# Altium footprint library PcbLib1.PcbLib: 218 footprints (part 12 of 14)
Each footprint in its own frame and in the unit in brackets; x right, y up, seen from the top. Pads: shape width x height; smd on the part's side, far side on the other; paste and mask are expansions set on the pad; w line width, h text height; cw(c..) or ccw(c..) is an arc to the next point about the centre after c.
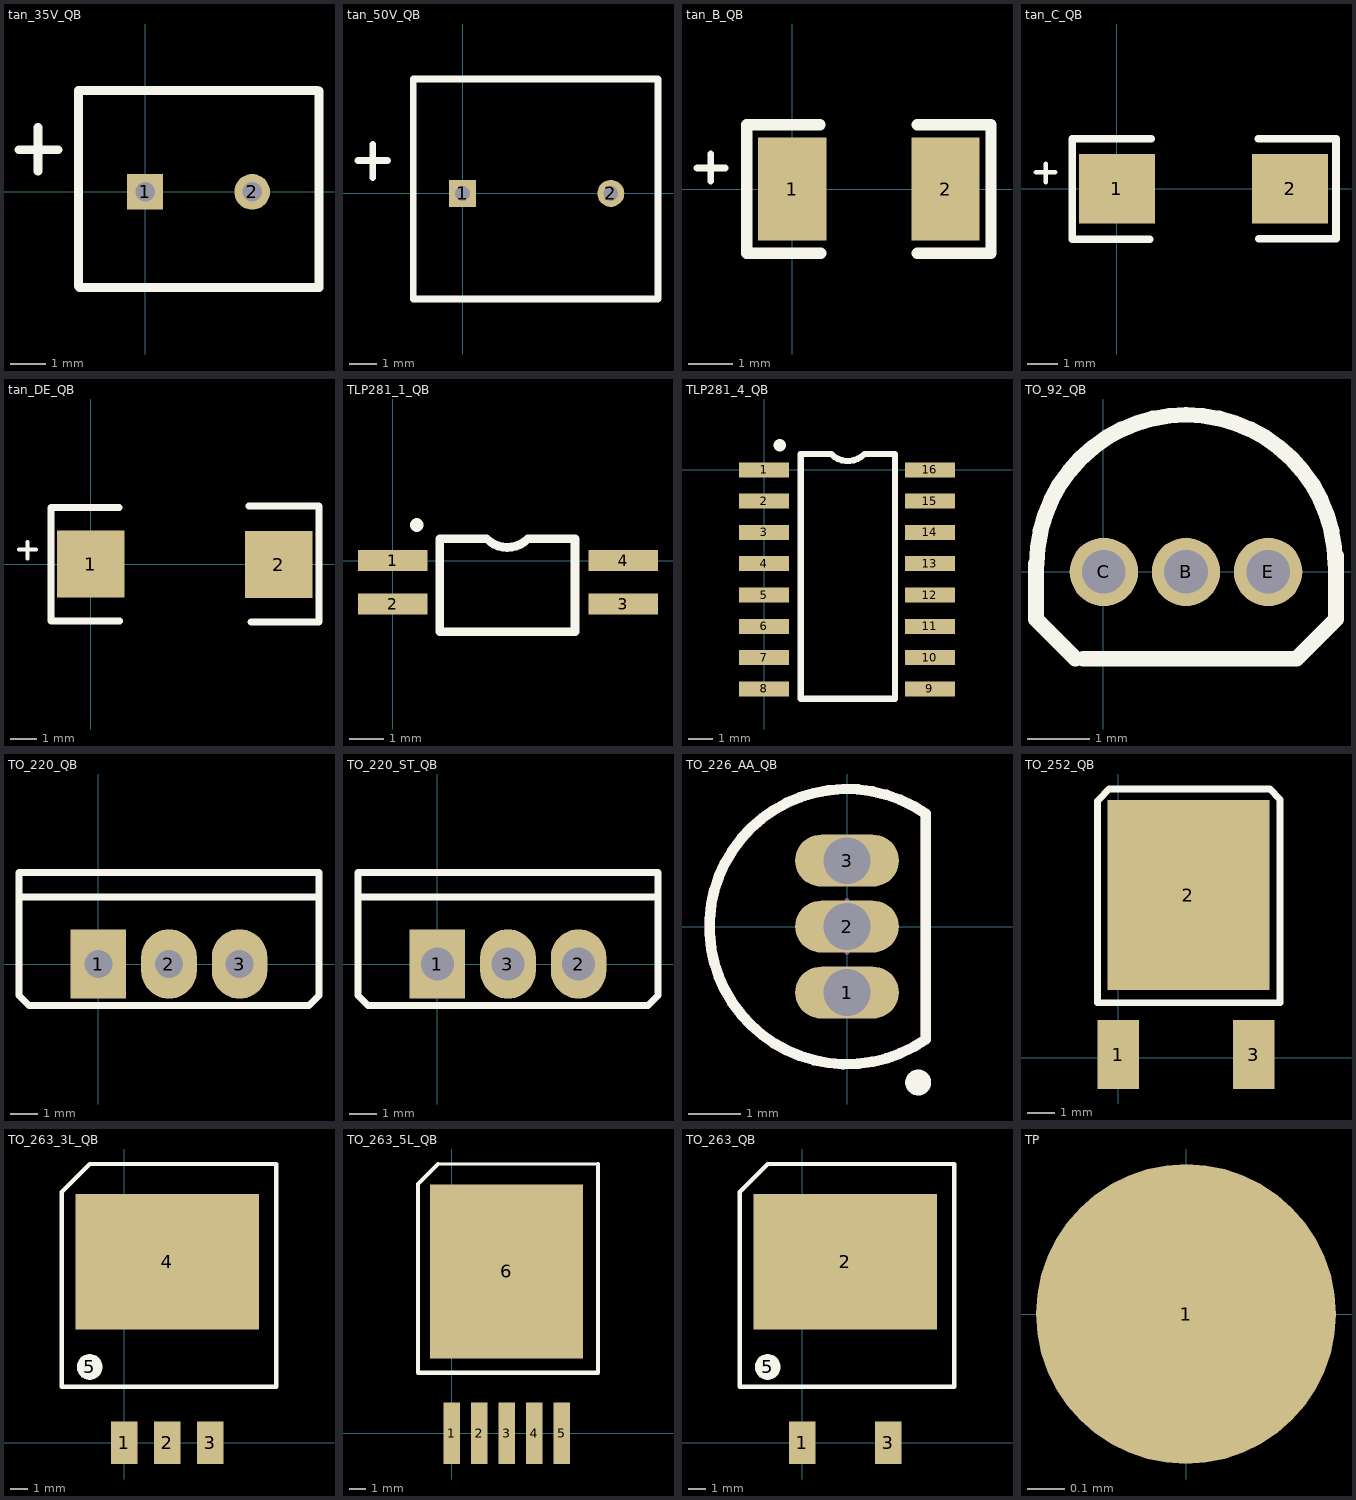
[diagram p11: the footprints below, top view; thin cyan lines are the x and y axes]

## tan_35V_QB [mm]
height 0.5
pads (2):
  rect 1x1 hole 0.55: 1(0,0)
  round 1 hole 0.55: 2(3,0)
Top Overlay:
  lines w0.25: -3.53,1.18 -2.44,1.18 ; -3,0.59 -3,1.81
  lines w0.254: -1.87,-2.64 -1.87,2.84 4.82,2.84 ; -1.83,-2.68 4.83,-2.68 ; 4.87,-2.68 4.87,2.83
3D body: height 7.98, standoff 2, extent -1.51,-1.95 4.478,2.05
3D body: height 3, standoff -2.6, extent -0.239,-0.25 0.259,0.249
3D body: height 3, standoff -2.6, extent 2.751,-0.24 3.249,0.259

## tan_50V_QB [mm]
height 0.5
pads (2):
  rect 1x1 hole 0.55: 1(0,0)
  round 1 hole 0.55: 2(5.5,0)
Top Overlay:
  lines w0.254: -3.88,1.22 -2.79,1.22 ; -3.33,0.59 -3.33,1.81 ; -1.83,-3.91 7.25,-3.91 7.25,4.24 -1.83,4.24 -1.83,-3.91
3D body: height 3, standoff -2.6, extent 5.251,-0.24 5.749,0.259
3D body: height 3, standoff -2.6, extent -0.239,-0.25 0.259,0.249
3D body: height 9.22, standoff 0.75, extent -1.522,-2.9 6.962,3.1

## tan_B_QB [mil]
height 74.8
pads (2):
  rect 60x90.55 smd: 1(0,0) 2(135,0)
Top Overlay:
  lines w5.91: -83.86,18.5 -59.06,18.5 ; -71.65,7.09 -71.65,31.1
  lines w10: 24.41,56.69 -40,56.69 -40,-56.69 25,-56.69 ; 110,-56.69 175,-56.69 175,56.69 110,56.69
3D body: height 74.8, standoff 0, extent 0.2,-56.1 136.7,55.71

## tan_C_QB [mm]
height 2.6
pads (2):
  rect 2.524x2.3 smd: 1(0,0) 2(5.74,0)
Top Overlay:
  lines w0.15: -2.68,0.54 -2.05,0.54 ; -2.36,0.21 -2.36,0.82
  lines w0.254: 1.09,-1.68 -1.48,-1.68 -1.48,1.66 1.13,1.66 ; 4.68,1.65 7.26,1.65 7.26,-1.66 4.7,-1.66
3D body: height 2.6, standoff 0, extent -0.14,-1.645 5.93,1.63

## tan_DE_QB [mm]
height 3.3
pads (2):
  rect 2.524x2.5 smd: 1(0,0) 2(7.04,-0.02)
Top Overlay:
  lines w0.15: -2.68,0.54 -2.05,0.54 ; -2.36,0.21 -2.36,0.82
  lines w0.254: 1.07,2.11 -1.48,2.11 -1.48,-2.13 1.09,-2.13 ; 5.91,2.17 8.54,2.17 8.54,-2.17 6,-2.17
3D body: height 3.3, standoff 0, extent -0.14,-2.14 7.04,2.14

## TLP281_1_QB [mil]
height 82.68
pads (4):
  rect 80x24 smd: 1(0,0) 2(0,-50) 3(265,-50) 4(265,0)
Top Overlay:
  lines w10: 53.98,-81.89 53.98,25 108.03,25 ccw(c131.74,48.7) 155.43,25 209.49,25 209.49,-81.89 53.98,-81.89
  lines w15.75: 27.6,40.94 27.6,40.94
3D body: height 82.68, standoff 3.94, extent 44.13,-84.65 221.69,25.2
3D body: height 5.91, standoff 0, extent 1.58,-60.08 30.11,-40.39
3D body: height 41.34, standoff 36.61, extent 23.72,-60.08 44.35,-40.39
3D body: height 37.4, standoff 0, extent 23.72,-60.07 30.12,-40.39
3D body: height 5.91, standoff 0, extent 1.32,-9.13 29.86,10.56
3D body: height 41.34, standoff 36.61, extent 23.47,-9.13 44.09,10.56
3D body: height 37.4, standoff 0, extent 23.47,-9.13 29.87,10.56
3D body: height 5.91, standoff 0, extent 235.48,-59.52 264.02,-39.84
3D body: height 41.34, standoff 36.61, extent 221.28,-59.53 241.91,-39.84
3D body: height 37.4, standoff 0, extent 235.48,-59.52 241.88,-39.84
3D body: height 5.91, standoff 0, extent 235.08,-9.68 263.62,10.01
3D body: height 41.34, standoff 36.61, extent 220.89,-9.69 241.51,10
3D body: height 37.4, standoff 0, extent 235.08,-9.68 241.48,10

## TLP281_4_QB [mil]
height 82.68
pads (16):
  rect 80x24 smd: 1(0,0) 2(0,-50) 3(0,-100) 4(0,-150) 5(0,-200) 6(0,-250) 7(0,-300) 8(0,-350) 9(265,-350) 10(265,-300) 11(265,-250) 12(265,-200) 13(265,-150) 14(265,-100) 15(265,-50) 16(265,0)
Top Overlay:
  lines w10: 58.66,-365.45 58.66,25 107.32,25 ccw(c133.86,51.54) 160.39,25 209.06,25 209.06,-365.45 58.66,-365.45
  lines w19.68: 25.2,39.37 25.2,39.38
3D body: height 82.68, standoff 3.94, extent 32.48,-370.57 235.04,25.1
3D body: height 5.91, standoff 0, extent 249.25,-359.94 277.79,-340.25
3D body: height 41.34, standoff 36.61, extent 235.02,-359.94 255.64,-340.25
3D body: height 37.4, standoff 0, extent 249.24,-359.93 255.64,-340.25
3D body: height 5.91, standoff 0, extent 249.24,-309.35 277.78,-289.66
3D body: height 41.34, standoff 36.61, extent 235.01,-309.35 255.63,-289.66
3D body: height 37.4, standoff 0, extent 249.24,-309.35 255.63,-289.66
3D body: height 5.91, standoff 0, extent 249.25,-260.73 277.79,-241.05
3D body: height 41.34, standoff 36.61, extent 235.02,-260.73 255.65,-241.05
3D body: height 37.4, standoff 0, extent 249.25,-260.73 255.65,-241.05
3D body: height 5.91, standoff 0, extent 249.24,-208.74 277.78,-189.06
3D body: height 41.34, standoff 36.61, extent 235.01,-208.74 255.63,-189.06
3D body: height 37.4, standoff 0, extent 249.24,-208.74 255.63,-189.06
3D body: height 5.91, standoff 0, extent 249.2,-158.81 277.74,-139.12
3D body: height 41.34, standoff 36.61, extent 234.97,-158.81 255.6,-139.12
3D body: height 37.4, standoff 0, extent 249.2,-158.81 255.6,-139.12
3D body: height 5.91, standoff 0, extent 249.21,-110.59 277.75,-90.9
3D body: height 41.34, standoff 36.61, extent 234.98,-110.59 255.6,-90.9
3D body: height 37.4, standoff 0, extent 249.2,-110.59 255.6,-90.9
3D body: height 5.91, standoff 0, extent 249.49,-59.29 278.03,-39.6
3D body: height 41.34, standoff 36.61, extent 235.26,-59.29 255.89,-39.6
3D body: height 37.4, standoff 0, extent 249.49,-59.29 255.89,-39.6
3D body: height 5.91, standoff 0, extent 249.35,-9.13 277.89,10.56
3D body: height 41.34, standoff 36.61, extent 235.12,-9.13 255.74,10.56
3D body: height 37.4, standoff 0, extent 249.35,-9.13 255.74,10.56
3D body: height 5.91, standoff 0, extent -10.28,-360.23 18.26,-340.55
3D body: height 41.34, standoff 36.61, extent 11.83,-360.24 32.46,-340.55
3D body: height 37.4, standoff 0, extent 11.87,-360.23 18.26,-340.55
3D body: height 5.91, standoff 0, extent -10.36,-310.31 18.18,-290.62
3D body: height 41.34, standoff 36.61, extent 11.75,-310.32 32.38,-290.63
3D body: height 37.4, standoff 0, extent 11.79,-310.31 18.18,-290.63
3D body: height 5.91, standoff 0, extent -10.2,-260.75 18.34,-241.06
3D body: height 41.34, standoff 36.61, extent 11.91,-260.75 32.54,-241.06
3D body: height 37.4, standoff 0, extent 11.94,-260.75 18.34,-241.06
3D body: height 5.91, standoff 0, extent -10.04,-209.92 18.5,-190.23
3D body: height 41.34, standoff 36.61, extent 12.07,-209.92 32.69,-190.23
3D body: height 37.4, standoff 0, extent 12.1,-209.92 18.5,-190.23
3D body: height 5.91, standoff 0, extent -10.2,-159.72 18.34,-140.03
3D body: height 41.34, standoff 36.61, extent 11.91,-159.73 32.54,-140.04
3D body: height 37.4, standoff 0, extent 11.94,-159.72 18.34,-140.04
3D body: height 5.91, standoff 0, extent -9.88,-110.67 18.66,-90.98
3D body: height 41.34, standoff 36.61, extent 12.23,-110.67 32.85,-90.98
3D body: height 37.4, standoff 0, extent 12.26,-110.67 18.66,-90.98
3D body: height 5.91, standoff 0, extent -10.04,-61.1 18.5,-41.41
3D body: height 41.34, standoff 36.61, extent 12.07,-61.1 32.69,-41.42
3D body: height 37.4, standoff 0, extent 12.1,-61.1 18.5,-41.41
3D body: height 5.91, standoff 0, extent -10.04,-9.29 18.5,10.4
3D body: height 41.34, standoff 36.61, extent 12.07,-9.29 32.69,10.39
3D body: height 37.4, standoff 0, extent 12.1,-9.29 18.5,10.4

## TO_92_QB [mm]
pads (3):
  round 1.1 hole 0.7: B(1.335,0.001) C(0.014,0.001) E(2.656,0.001)
Top Overlay:
  lines w0.254: -1.078,0.128 -1.078,-0.761 -0.443,-1.396 ; -1.065,0.128 cw(c1.335,0.128) 3.735,0.128 ; -0.316,-1.396 3.113,-1.396 3.748,-0.761 3.748,0.255
3D body: height 8.7, standoff 4, extent -0.769,-1.843 3.421,0.047
3D body: height 6.6, standoff -2.6, extent -0.265,-0.115 0.295,0.101
3D body: height 6.6, standoff -2.6, extent 1.067,-0.127 1.627,0.089
3D body: height 6.6, standoff -2.6, extent 2.375,-0.103 2.935,0.113
3D body: height 8.7, standoff 4, extent -0.749,-1.731 3.435,2.461

## TO_220_QB [mm]
pads (3):
  rect 2x2.5 hole 1: 1(0,0)
  oval 2x2.5 hole 1: 2(2.54,0) 3(5.08,0)
Top Overlay:
  lines w0.254: -2.86,2.413 7.94,2.413 ; -2.86,-1.135 -2.86,-0.635 -2.86,3.3 7.94,3.3 7.94,-0.635 7.94,-1.135 7.575,-1.5 -2.495,-1.5 -2.86,-1.135
3D body: height 12.7, standoff 4, extent -2.921,-1.524 8.001,3.302
3D body: height 14.7, standoff 8.7, extent -2.794,2.413 8.001,3.302
3D body: height 2.6, standoff 0, extent -0.498,-0.49 0.498,0.508
3D body: height 2.6, standoff 0, extent 4.582,-0.49 5.578,0.508
3D body: height 2.6, standoff 0, extent 2.042,-0.49 3.038,0.508
3D body: height 4, standoff 0, extent -0.65,-0.249 0.65,0.249
3D body: height 4, standoff 0, extent 1.89,-0.249 3.19,0.249
3D body: height 4, standoff 0, extent 4.43,-0.249 5.73,0.249

## TO_220_ST_QB [mm] "L7912CV, L7824CV管脚顺序132."
height 20
pads (3):
  rect 2x2.5 hole 1.2: 1(0,0)
  oval 2x2.5 hole 1.2: 2(5.08,0) 3(2.54,0)
Top Overlay:
  lines w0.254: -2.86,2.413 7.94,2.413 ; -2.86,-1.135 -2.86,-0.635 -2.86,3.3 7.94,3.3 7.94,-0.635 7.94,-1.135 7.575,-1.5 -2.495,-1.5 -2.86,-1.135
3D body: height 12.7, standoff 4, extent -2.921,-1.524 8.001,3.302
3D body: height 18.7, standoff 12.7, extent -2.794,2.413 8.001,3.302
3D body: height 4, standoff 0, extent 4.43,-0.249 5.73,0.249
3D body: height 4, standoff 0, extent 1.89,-0.249 3.19,0.249
3D body: height 4, standoff 0, extent -0.65,-0.249 0.65,0.249

## TO_226_AA_QB [mm]
height 8
pads (3):
  oval 2x1 hole 0.9: 1(0,-1.27) 2(0,0) 3(0,1.27)
Top Overlay:
  circle w0.25: c1.371,-3.003 r0.125
  lines w0.2: 1.52,-2.171 cw(c0,0) 1.52,2.171 1.52,-2.171
Mechanical 13:
  lines w0.2: 1.52,-2.171 cw(c0,0) 1.52,2.171 1.52,-2.171
Mechanical 15:
  lines w0.1: -0.5,0 0.5,0 ; 0,-0.5 0,0.5
3D body: height 2.55, standoff 0, extent -0.248,-1.52 0.25,-1.021
3D body: height 2.55, standoff 0, extent -0.248,-0.25 0.25,0.249
3D body: height 2.55, standoff 0, extent -0.248,1.02 0.25,1.519
3D body: height 7.87, standoff 2.54, extent -2.651,-2.661 1.52,2.661

## TO_252_QB [mil]
height 118.11
pads (3):
  rect 60x100 smd: 1(0,5) 3(196.85,5)
  rect 235x275.59 smd: 2(101.93,236.22)
Top Overlay:
  lines w10: -30.07,373 -30.07,80 235,80 235,375 220,390 ; -28.07,375 -13.07,390 218.7,390
3D body: height 59.06, standoff 0, extent 172,-23 221,97
3D body: height 59.06, standoff 0, extent -23,-26 26,94
3D body: height 118.11, standoff 0, extent -30,81 235,390

## TO_263_3L_QB [mm]
pads (5):
  rect 1.57x2.5 smd: 1(0,0) 2(2.54,0) 3(5.08,0)
  rect 10.8x8 smd: 4(2.54,10.67)
  round 1.524 on Top Overlay: 5(-2.032,4.47)
Top Overlay:
  lines w0.254: -3.683,3.302 -3.683,14.529 -3.683,14.783 -2.032,16.434 8.966,16.434 8.966,3.302 -3.683,3.302
3D body: height 4.57, standoff 0.15, extent -2.591,3.531 7.569,12.167
3D body: height 1.27, standoff 0.15, extent -2.591,12.205 7.569,13.754
3D body: height 3.76, standoff 3, extent 4.572,1.702 5.588,3.531
3D body: height 3, standoff 0, extent 4.572,1.715 5.588,1.969
3D body: height 0.76, standoff 0, extent 4.572,-0.013 5.588,1.842
3D body: height 3.76, standoff 3, extent 2.007,1.727 3.023,3.556
3D body: height 3, standoff 0, extent 2.007,1.74 3.023,1.994
3D body: height 0.76, standoff 0, extent 2.007,0.013 3.023,1.867
3D body: height 3.76, standoff 3, extent -0.533,1.702 0.483,3.531
3D body: height 3, standoff 0, extent -0.533,1.715 0.483,1.969
3D body: height 0.76, standoff 0, extent -0.533,-0.013 0.483,1.842

## TO_263_5L_QB [mm]
height 0.5
pads (6):
  rect 1x3.8 smd: 1(0,0)
  rect 1.016x3.8 smd: 2(1.7,0) 3(3.4,0) 4(5.1,0) 5(6.8,0)
  rect 9.45x10.75 smd: 6(3.4,10)
Top Overlay:
  lines w0.203: -0.84,16.63 9.033,16.63
  lines w0.254: -0.84,16.63 -2.073,15.397 -2.073,3.733 -1.413,3.733 8.239,3.733 9.033,3.733 9.033,16.63
3D body: height 3.5, standoff 0, extent -0.94,1.93 7.671,13.665
3D body: height 2, standoff 0, extent -0.457,-1.575 0.457,1.93
3D body: height 2, standoff 0, extent 1.245,-1.575 2.159,1.93
3D body: height 2, standoff 0, extent 2.946,-1.575 3.861,1.93
3D body: height 2, standoff 0, extent 4.648,-1.575 5.563,1.93
3D body: height 2, standoff 0, extent 6.35,-1.575 7.264,1.93
3D body: height 2, standoff 0, extent -0.711,13.614 7.366,14.478

## TO_263_QB [mm]
pads (4):
  rect 1.57x2.5 smd: 1(0,0) 3(5.08,0)
  rect 10.8x8 smd: 2(2.54,10.67)
  round 1.524 on Top Overlay: 5(-2.032,4.47)
Top Overlay:
  lines w0.254: -3.683,3.302 8.966,3.302 8.966,16.434 -2.032,16.434 -3.683,14.783 -3.683,14.529 -3.683,3.302
3D body: height 0.76, standoff 0, extent -0.533,-0.013 0.483,1.842
3D body: height 3, standoff 0, extent -0.533,1.715 0.483,1.969
3D body: height 3.76, standoff 3, extent -0.533,1.702 0.483,3.531
3D body: height 3.76, standoff 3, extent 2.007,1.727 3.023,3.556
3D body: height 0.76, standoff 0, extent 4.572,-0.013 5.588,1.842
3D body: height 3, standoff 0, extent 4.572,1.715 5.588,1.969
3D body: height 3.76, standoff 3, extent 4.572,1.702 5.588,3.531
3D body: height 1.27, standoff 0.15, extent -2.591,12.205 7.569,13.754
3D body: height 4.57, standoff 0.15, extent -2.591,3.531 7.569,12.167

## TP [mm]
pads (1):
  round 0.8 smd mask+0.01: 1(0,0)